# EAGLE library part TERMINAL8 (library PNP)
8 terminal pluggable
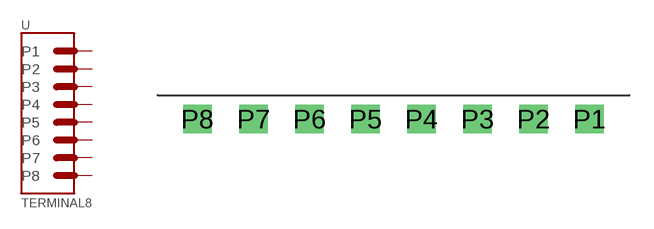
[diagram p16: symbol with the pads of TERMINAL8; footprint TERMINAL8]

Designator prefix -

## TERMINAL8  [TERMINAL8]
P1  P1  pas
P2  P2  pas
P3  P3  pas
P4  P4  pas
P5  P5  pas
P6  P6  pas
P7  P7  pas
P8  P8  pas

## Footprint TERMINAL8 (pad centres in mm)
8 pin, 3.50 mm spacing
drill 1.2 square: P1 7,0; P2 3.5,0; P3 0,0; P4 -3.5,0; P5 -7,0; P6 -10.5,0; P7 -14,0; P8 -17.5,0